# Altium integrated library National Semiconductor Interface.IntLib: 1433 symbols (part 12 of 51)
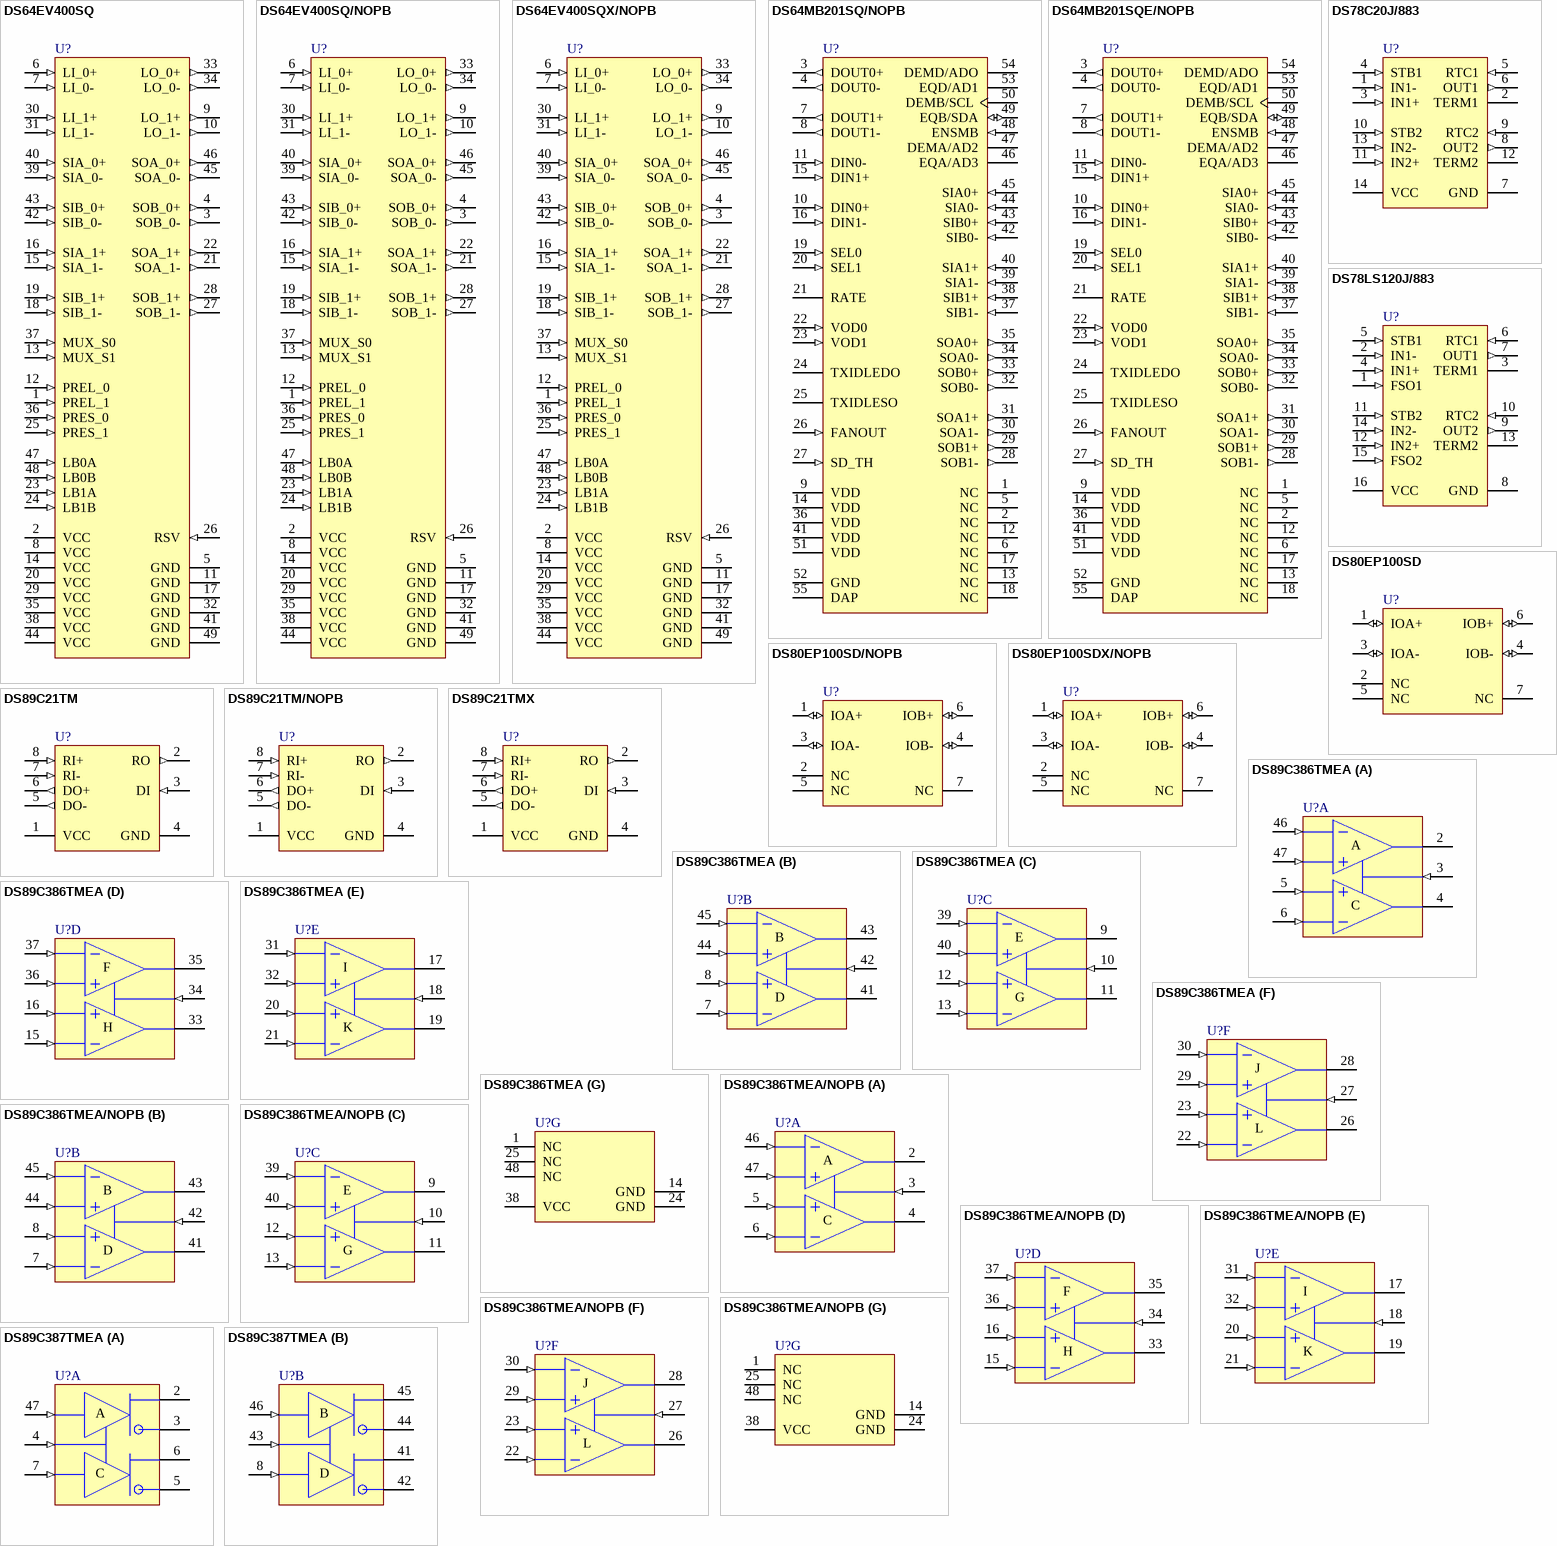
[diagram p135: symbols DS64EV400SQ to DS89C387TMEA]

## DS89C386TMEA/NOPB
designator U?
Twelve Channel CMOS Differential Line Receiver, 48-pin SSOP, Pb-Free; PartNumber: DS89C386TMEA/NOPB; Manufacturer: National Semiconductor; PackageTopMarking: NSUZXYTTE#*DS89C386T*MEA; PowerWise: N; CompType: Interface IC; High-Reliability: Y; DatasheetVersion: Oct-2001; PackageVersion: revF, Sep-2005; PackageReference: MS48A; PackageDescription: SSOP, .295 x .625 x .09in Body, 48 Lead, .025in Pitch; RoHS: Y; PinCount: 48; Code_IPC: SOP635P1035-48; ComponentLink1Description: Manufacturer URL; ComponentLink1URL: http://www.national.com/; ComponentLink2Description: DS89C386 Datasheet; ComponentLink2URL: http://www.national.com/ds/DS/DS89C386.pdf; ComponentLink3Description: DS89C386 Web Page; ComponentLink3URL: http://www.national.com/pf/DS/DS89C386.html; ComponentLink4Description: MS48A Package Page; ComponentLink4URL: http://www.national.com/packaging/folders/ms48a.html
footprint MS48A_N (SOP, 48-Leads, Body 15.9x7.5mm, Pitch 0.635mm, IPC Medium Density)
footprint MS48A_L (SOP, 48-Leads, Body 15.9x7.5mm, Pitch 0.635mm, IPC High Density)
footprint MS48A_M (SOP, 48-Leads, Body 15.9x7.5mm, Pitch 0.635mm, IPC Low Density)
part A pins: 2 RO (hiz), 3 EN (in), 4 RO (hiz), 5 RI+ (in), 6 RI- (in), 46 RI- (in), 47 RI+ (in)
part B pins: 7 RI- (in), 8 RI+ (in), 41 RO (hiz), 42 EN (in), 43 RO (hiz), 44 RI+ (in), 45 RI- (in)
part C pins: 9 RO (hiz), 10 EN (in), 11 RO (hiz), 12 RI+ (in), 13 RI- (in), 39 RI- (in), 40 RI+ (in)
part D pins: 15 RI- (in), 16 RI+ (in), 33 RO (hiz), 34 EN (in), 35 RO (hiz), 36 RI+ (in), 37 RI- (in)
part E pins: 17 RO (hiz), 18 EN (in), 19 RO (hiz), 20 RI+ (in), 21 RI- (in), 31 RI- (in), 32 RI+ (in)
part F pins: 22 RI- (in), 23 RI+ (in), 26 RO (hiz), 27 EN (in), 28 RO (hiz), 29 RI+ (in), 30 RI- (in)
part G pins: 1 NC, 14 GND (power), 24 GND (power), 25 NC, 38 VCC (power), 48 NC
part A text: A; C
part B text: B; D
part C text: E; G
part D text: F; H
part E text: I; K
part F text: J; L

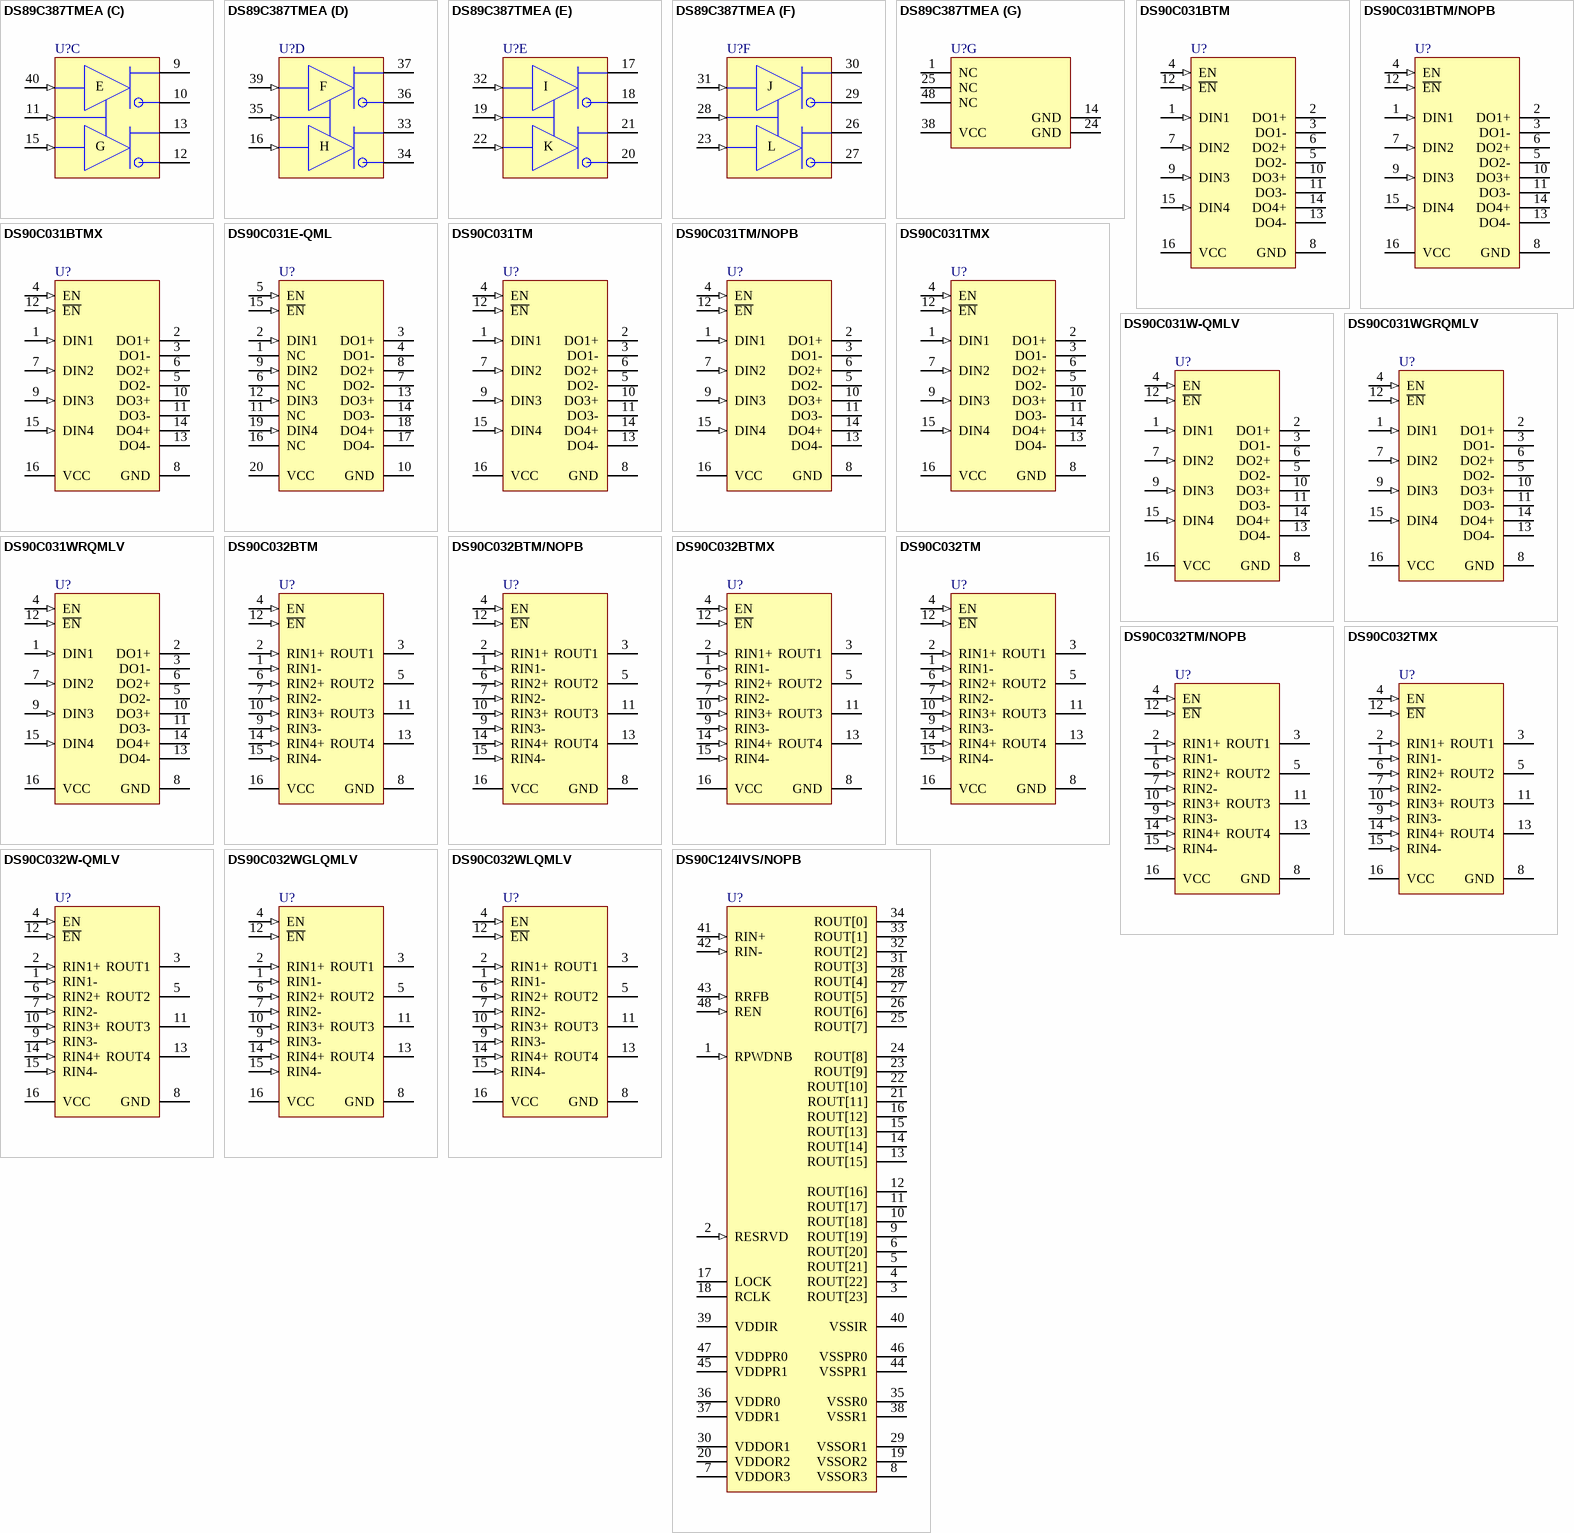
[diagram p29: symbols DS89C387TMEA to DS90C124IVS/NOPB]

## DS89C387TMEA
designator U?
Twelve Channel CMOS Differential Line Driver, 48-pin SSOP; PartNumber: DS89C387TMEA; Manufacturer: National Semiconductor; PackageTopMarking: NSUZXYTTE#*DS89C387T*MEA; PowerWise: N; CompType: Interface IC; High-Reliability: Y; DatasheetVersion: Dec-2006; PackageVersion: revF, Sep-2005; PackageReference: MS48A; PackageDescription: SSOP, .295 x .625 x .09in Body, 48 Lead, .025in Pitch; RoHS: N; PinCount: 48; Code_IPC: SOP635P1035-48; ComponentLink1Description: Manufacturer URL; ComponentLink1URL: http://www.national.com/; ComponentLink2Description: DS89C387 Datasheet; ComponentLink2URL: http://www.national.com/ds/DS/DS89C387.pdf; ComponentLink3Description: DS89C387 Web Page; ComponentLink3URL: http://www.national.com/pf/DS/DS89C387.html; ComponentLink4Description: MS48A Package Page; ComponentLink4URL: http://www.national.com/packaging/folders/ms48a.html
footprint MS48A_N (SOP, 48-Leads, Body 15.9x7.5mm, Pitch 0.635mm, IPC Medium Density)
footprint MS48A_L (SOP, 48-Leads, Body 15.9x7.5mm, Pitch 0.635mm, IPC High Density)
footprint MS48A_M (SOP, 48-Leads, Body 15.9x7.5mm, Pitch 0.635mm, IPC Low Density)
part A pins: 2 DO (hiz), 3 ~{DO} (hiz), 4 EN (in), 5 ~{DO} (hiz), 6 DO (hiz), 7 DI (in), 47 DI (in)
part B pins: 8 DI (in), 41 DO (hiz), 42 ~{DO} (hiz), 43 EN (in), 44 ~{DO} (hiz), 45 DO (hiz), 46 DI (in)
part C pins: 9 DO (hiz), 10 ~{DO} (hiz), 11 EN (in), 12 ~{DO} (hiz), 13 DO (hiz), 15 DI (in), 40 DI (in)
part D pins: 16 DI (in), 33 DO (hiz), 34 ~{DO} (hiz), 35 EN (in), 36 ~{DO} (hiz), 37 DO (hiz), 39 DI (in)
part E pins: 17 DO (hiz), 18 ~{DO} (hiz), 19 EN (in), 20 ~{DO} (hiz), 21 DO (hiz), 22 DI (in), 32 DI (in)
part F pins: 23 DI (in), 26 DO (hiz), 27 ~{DO} (hiz), 28 EN (in), 29 ~{DO} (hiz), 30 DO (hiz), 31 DI (in)
part G pins: 1 NC, 14 GND (power), 24 GND (power), 25 NC, 38 VCC (power), 48 NC
part A text: A; C
part B text: B; D
part C text: E; G
part D text: F; H
part E text: I; K
part F text: J; L

## DS90C031BTM
designator U?
LVDS Quad CMOS Differential Line Driver, 16-pin Narrow SOIC; PartNumber: DS90C031BTM; Manufacturer: National Semiconductor; PackageTopMarking: NSUZXYTTE#*DS90C031BTM; PowerWise: N; CompType: Interface IC; High-Reliability: Y; DatasheetVersion: Oct-2001; PackageVersion: revJ, Aug-1995; PackageReference: M16A; PackageDescription: Molded Package, SO, .150in Wide, 16 Lead; RoHS: N; PinCount: 16; Code_JEDEC: MS-012-AC; Code_IPC: SOIC127P600-16; ComponentLink1Description: Manufacturer URL; ComponentLink1URL: http://www.national.com/; ComponentLink2Description: DS90C031B Datasheet; ComponentLink2URL: http://www.national.com/ds/DS/DS90C031B.pdf; ComponentLink3Description: DS90C031B Web Page; ComponentLink3URL: http://www.national.com/pf/DS/DS90C031B.html; ComponentLink4Description: M16A Package Page; ComponentLink4URL: http://www.national.com/packaging/folders/m16a.html
footprint M16A_N (SOIC, 16-Leads, Body 9.9x3.9mm, Pitch 1.27mm, IPC Medium Density)
footprint M16A_L (SOIC, 16-Leads, Body 9.9x3.9mm, Pitch 1.27mm, IPC High Density)
footprint M16A_M (SOIC, 16-Leads, Body 9.9x3.9mm, Pitch 1.27mm, IPC Low Density)
pins: 1 DIN1 (in), 2 DO1+ (hiz), 3 DO1- (hiz), 4 EN (in), 5 DO2- (hiz), 6 DO2+ (hiz), 7 DIN2 (in), 8 GND (power), 9 DIN3 (in), 10 DO3+ (hiz), 11 DO3- (hiz), 12 ~{EN} (in), 13 DO4- (hiz), 14 DO4+ (hiz), 15 DIN4 (in), 16 VCC (power)

## DS90C031BTM/NOPB
designator U?
LVDS Quad CMOS Differential Line Driver, 16-pin Narrow SOIC, Pb-Free; PartNumber: DS90C031BTM/NOPB; Manufacturer: National Semiconductor; PackageTopMarking: NSUZXYTTE#*DS90C031BTM; PowerWise: N; CompType: Interface IC; High-Reliability: Y; DatasheetVersion: Oct-2001; PackageVersion: revJ, Aug-1995; PackageReference: M16A; PackageDescription: Molded Package, SO, .150in Wide, 16 Lead; RoHS: Y; PinCount: 16; Code_JEDEC: MS-012-AC; Code_IPC: SOIC127P600-16; ComponentLink1Description: Manufacturer URL; ComponentLink1URL: http://www.national.com/; ComponentLink2Description: DS90C031B Datasheet; ComponentLink2URL: http://www.national.com/ds/DS/DS90C031B.pdf; ComponentLink3Description: DS90C031B Web Page; ComponentLink3URL: http://www.national.com/pf/DS/DS90C031B.html; ComponentLink4Description: M16A Package Page; ComponentLink4URL: http://www.national.com/packaging/folders/m16a.html
footprint M16A_N (SOIC, 16-Leads, Body 9.9x3.9mm, Pitch 1.27mm, IPC Medium Density)
footprint M16A_L (SOIC, 16-Leads, Body 9.9x3.9mm, Pitch 1.27mm, IPC High Density)
footprint M16A_M (SOIC, 16-Leads, Body 9.9x3.9mm, Pitch 1.27mm, IPC Low Density)
pins: 1 DIN1 (in), 2 DO1+ (hiz), 3 DO1- (hiz), 4 EN (in), 5 DO2- (hiz), 6 DO2+ (hiz), 7 DIN2 (in), 8 GND (power), 9 DIN3 (in), 10 DO3+ (hiz), 11 DO3- (hiz), 12 ~{EN} (in), 13 DO4- (hiz), 14 DO4+ (hiz), 15 DIN4 (in), 16 VCC (power)

## DS90C031BTMX
designator U?
LVDS Quad CMOS Differential Line Driver, 16-pin Narrow SOIC; PartNumber: DS90C031BTMX; Manufacturer: National Semiconductor; PackageTopMarking: NSUZXYTTE#*DS90C031BTM; PowerWise: N; CompType: Interface IC; High-Reliability: Y; DatasheetVersion: Oct-2001; PackageVersion: revJ, Aug-1995; PackageReference: M16A; PackageDescription: Molded Package, SO, .150in Wide, 16 Lead; RoHS: N; PinCount: 16; Code_JEDEC: MS-012-AC; Code_IPC: SOIC127P600-16; ComponentLink1Description: Manufacturer URL; ComponentLink1URL: http://www.national.com/; ComponentLink2Description: DS90C031B Datasheet; ComponentLink2URL: http://www.national.com/ds/DS/DS90C031B.pdf; ComponentLink3Description: DS90C031B Web Page; ComponentLink3URL: http://www.national.com/pf/DS/DS90C031B.html; ComponentLink4Description: M16A Package Page; ComponentLink4URL: http://www.national.com/packaging/folders/m16a.html
footprint M16A_N (SOIC, 16-Leads, Body 9.9x3.9mm, Pitch 1.27mm, IPC Medium Density)
footprint M16A_L (SOIC, 16-Leads, Body 9.9x3.9mm, Pitch 1.27mm, IPC High Density)
footprint M16A_M (SOIC, 16-Leads, Body 9.9x3.9mm, Pitch 1.27mm, IPC Low Density)
pins: 1 DIN1 (in), 2 DO1+ (hiz), 3 DO1- (hiz), 4 EN (in), 5 DO2- (hiz), 6 DO2+ (hiz), 7 DIN2 (in), 8 GND (power), 9 DIN3 (in), 10 DO3+ (hiz), 11 DO3- (hiz), 12 ~{EN} (in), 13 DO4- (hiz), 14 DO4+ (hiz), 15 DIN4 (in), 16 VCC (power)

## DS90C031E-QML
designator U?
LVDS Quad CMOS Differential Line Driver, 20-pin LCC; PartNumber: DS90C031E-QML; Manufacturer: National Semiconductor; PackageTopMarking: NSZSSXXYYA*5962-95833*01Q2A*DS90C031E*-QML Q; PowerWise: N; CompType: Interface IC; High-Reliability: Y; DatasheetVersion: Jun-1998; PackageVersion: revF, May-2004; PackageReference: E20A; PackageDescription: Leadless Chip Carrier, Type C, 20 Terminal; RoHS: N; PinCount: 20; Code_JEDEC: MS-004-CB; ComponentLink1Description: Manufacturer URL; ComponentLink1URL: http://www.national.com/; ComponentLink2Description: DS90C031 Datasheet; ComponentLink2URL: http://www.national.com/ds/DS/DS90C031QML.pdf; ComponentLink3Description: DS90C031 Web Page; ComponentLink3URL: http://www.national.com/pf/DS/DS90C031.html; ComponentLink4Description: E20A Package Page; ComponentLink4URL: http://www.national.com/packaging/folders/e20a.html
footprint E20A_N (Leadless Chip Carrier, 20-Leads, Body 8.9x8.9mm, Pitch 1.27mm, IPC Medium Density)
footprint E20A_L (Leadless Chip Carrier, 20-Leads, Body 8.9x8.9mm, Pitch 1.27mm, IPC High Density)
footprint E20A_M (Leadless Chip Carrier, 20-Leads, Body 8.9x8.9mm, Pitch 1.27mm, IPC Low Density)
pins: 1 NC, 2 DIN1 (in), 3 DO1+ (hiz), 4 DO1- (hiz), 5 EN (in), 6 NC, 7 DO2- (hiz), 8 DO2+ (hiz), 9 DIN2 (in), 10 GND (power), 11 NC, 12 DIN3 (in), 13 DO3+ (hiz), 14 DO3- (hiz), 15 ~{EN} (in), 16 NC, 17 DO4- (hiz), 18 DO4+ (hiz), 19 DIN4 (in), 20 VCC (power)

## DS90C031TM
designator U?
LVDS Quad CMOS Differential Line Driver, 16-pin Narrow SOIC; PartNumber: DS90C031TM; Manufacturer: National Semiconductor; PackageTopMarking: NSUZXYTTE#*DS90C031TM; PowerWise: N; CompType: Interface IC; High-Reliability: Y; DatasheetVersion: Jun-1998; PackageVersion: revJ, Aug-1995; PackageReference: M16A; PackageDescription: Molded Package, SO, .150in Wide, 16 Lead; RoHS: N; PinCount: 16; Code_JEDEC: MS-012-AC; Code_IPC: SOIC127P600-16; ComponentLink1Description: Manufacturer URL; ComponentLink1URL: http://www.national.com/; ComponentLink2Description: DS90C031 Datasheet; ComponentLink2URL: http://www.national.com/ds/DS/DS90C031.pdf; ComponentLink3Description: DS90C031 Web Page; ComponentLink3URL: http://www.national.com/pf/DS/DS90C031.html; ComponentLink4Description: M16A Package Page; ComponentLink4URL: http://www.national.com/packaging/folders/m16a.html
footprint M16A_N (SOIC, 16-Leads, Body 9.9x3.9mm, Pitch 1.27mm, IPC Medium Density)
footprint M16A_L (SOIC, 16-Leads, Body 9.9x3.9mm, Pitch 1.27mm, IPC High Density)
footprint M16A_M (SOIC, 16-Leads, Body 9.9x3.9mm, Pitch 1.27mm, IPC Low Density)
pins: 1 DIN1 (in), 2 DO1+ (hiz), 3 DO1- (hiz), 4 EN (in), 5 DO2- (hiz), 6 DO2+ (hiz), 7 DIN2 (in), 8 GND (power), 9 DIN3 (in), 10 DO3+ (hiz), 11 DO3- (hiz), 12 ~{EN} (in), 13 DO4- (hiz), 14 DO4+ (hiz), 15 DIN4 (in), 16 VCC (power)

## DS90C031TM/NOPB
designator U?
LVDS Quad CMOS Differential Line Driver, 16-pin Narrow SOIC, Pb-Free; PartNumber: DS90C031TM/NOPB; Manufacturer: National Semiconductor; PackageTopMarking: NSUZXYTTE#*DS90C031TM; PowerWise: N; CompType: Interface IC; High-Reliability: Y; DatasheetVersion: Jun-1998; PackageVersion: revJ, Aug-1995; PackageReference: M16A; PackageDescription: Molded Package, SO, .150in Wide, 16 Lead; RoHS: Y; PinCount: 16; Code_JEDEC: MS-012-AC; Code_IPC: SOIC127P600-16; ComponentLink1Description: Manufacturer URL; ComponentLink1URL: http://www.national.com/; ComponentLink2Description: DS90C031 Datasheet; ComponentLink2URL: http://www.national.com/ds/DS/DS90C031.pdf; ComponentLink3Description: DS90C031 Web Page; ComponentLink3URL: http://www.national.com/pf/DS/DS90C031.html; ComponentLink4Description: M16A Package Page; ComponentLink4URL: http://www.national.com/packaging/folders/m16a.html
footprint M16A_N (SOIC, 16-Leads, Body 9.9x3.9mm, Pitch 1.27mm, IPC Medium Density)
footprint M16A_L (SOIC, 16-Leads, Body 9.9x3.9mm, Pitch 1.27mm, IPC High Density)
footprint M16A_M (SOIC, 16-Leads, Body 9.9x3.9mm, Pitch 1.27mm, IPC Low Density)
pins: 1 DIN1 (in), 2 DO1+ (hiz), 3 DO1- (hiz), 4 EN (in), 5 DO2- (hiz), 6 DO2+ (hiz), 7 DIN2 (in), 8 GND (power), 9 DIN3 (in), 10 DO3+ (hiz), 11 DO3- (hiz), 12 ~{EN} (in), 13 DO4- (hiz), 14 DO4+ (hiz), 15 DIN4 (in), 16 VCC (power)

## DS90C031TMX
designator U?
LVDS Quad CMOS Differential Line Driver, 16-pin Narrow SOIC; PartNumber: DS90C031TMX; Manufacturer: National Semiconductor; PackageTopMarking: NSUZXYTTE#*DS90C031TM; PowerWise: N; CompType: Interface IC; High-Reliability: Y; DatasheetVersion: Jun-1998; PackageVersion: revJ, Aug-1995; PackageReference: M16A; PackageDescription: Molded Package, SO, .150in Wide, 16 Lead; RoHS: N; PinCount: 16; Code_JEDEC: MS-012-AC; Code_IPC: SOIC127P600-16; ComponentLink1Description: Manufacturer URL; ComponentLink1URL: http://www.national.com/; ComponentLink2Description: DS90C031 Datasheet; ComponentLink2URL: http://www.national.com/ds/DS/DS90C031.pdf; ComponentLink3Description: DS90C031 Web Page; ComponentLink3URL: http://www.national.com/pf/DS/DS90C031.html; ComponentLink4Description: M16A Package Page; ComponentLink4URL: http://www.national.com/packaging/folders/m16a.html
footprint M16A_N (SOIC, 16-Leads, Body 9.9x3.9mm, Pitch 1.27mm, IPC Medium Density)
footprint M16A_L (SOIC, 16-Leads, Body 9.9x3.9mm, Pitch 1.27mm, IPC High Density)
footprint M16A_M (SOIC, 16-Leads, Body 9.9x3.9mm, Pitch 1.27mm, IPC Low Density)
pins: 1 DIN1 (in), 2 DO1+ (hiz), 3 DO1- (hiz), 4 EN (in), 5 DO2- (hiz), 6 DO2+ (hiz), 7 DIN2 (in), 8 GND (power), 9 DIN3 (in), 10 DO3+ (hiz), 11 DO3- (hiz), 12 ~{EN} (in), 13 DO4- (hiz), 14 DO4+ (hiz), 15 DIN4 (in), 16 VCC (power)

## DS90C031W-QMLV
designator U?
LVDS Quad CMOS Differential Line Driver, 16-pin CerPACK; PartNumber: DS90C031W-QMLV; Manufacturer: National Semiconductor; PackageTopMarking: NSZSSXXYYA*DS90C031W-*QV Q 5962-*9583301VFA; PowerWise: N; CompType: Interface IC; High-Reliability: Y; DatasheetVersion: Mar-06; PackageVersion: revT, Jul-2005; PackageReference: W16A; PackageDescription: Cerpack, .390 x .250 x .074in Body, 16 Lead, .050in Pitch; RoHS: N; PinCount: 16; Code_JEDEC: MO-092-AC; ComponentLink1Description: Manufacturer URL; ComponentLink1URL: http://www.national.com/; ComponentLink2Description: DS90C031 Datasheet; ComponentLink2URL: http://www.national.com/ds/DS/DS90C031QML.pdf; ComponentLink3Description: DS90C031 Web Page; ComponentLink3URL: http://www.national.com/pf/DS/DS90C031.html; ComponentLink4Description: W16A Package Page; ComponentLink4URL: http://www.national.com/packaging/folders/w16a.html
footprint W16A (DFP; 16 Leads; Body 9.9 x 7.6 mm (LxW max); Pitch 1.27 mm)
pins: 1 DIN1 (in), 2 DO1+ (hiz), 3 DO1- (hiz), 4 EN (in), 5 DO2- (hiz), 6 DO2+ (hiz), 7 DIN2 (in), 8 GND (power), 9 DIN3 (in), 10 DO3+ (hiz), 11 DO3- (hiz), 12 ~{EN} (in), 13 DO4- (hiz), 14 DO4+ (hiz), 15 DIN4 (in), 16 VCC (power)

## DS90C031WGRQMLV
designator U?
LVDS Quad CMOS Differential Line Driver, 16-pin CerPACK; PartNumber: DS90C031WGRQMLV; Manufacturer: National Semiconductor; PackageTopMarking: NSZSSXXYYA*DS90C031WGR*QV Q 5962R*9583301VZA; PowerWise: N; CompType: Interface IC; High-Reliability: Y; DatasheetVersion: Mar-06; PackageVersion: revE, Jul-2007; PackageReference: WG16A; PackageDescription: Cerpack, .390 x .250 x .070in, 16 Lead, .050in Pitch, Gull Wing; RoHS: N; PinCount: 16; ComponentLink1Description: Manufacturer URL; ComponentLink1URL: http://www.national.com/; ComponentLink2Description: DS90C031 Datasheet; ComponentLink2URL: http://www.national.com/ds/DS/DS90C031QML.pdf; ComponentLink3Description: DS90C031 Web Page; ComponentLink3URL: http://www.national.com/pf/DS/DS90C031.html; ComponentLink4Description: WG16A Package Page; ComponentLink4URL: http://www.national.com/packaging/folders/wg16a.html
footprint WG16A_N (CERPACK, 16-Leads, Body 9.9x6.5mm, Pitch 1.27mm, IPC Medium Density)
footprint WG16A_L (CERPACK, 16-Leads, Body 9.9x6.5mm, Pitch 1.27mm, IPC High Density)
footprint WG16A_M (CERPACK, 16-Leads, Body 9.9x6.5mm, Pitch 1.27mm, IPC Low Density)
pins: 1 DIN1 (in), 2 DO1+ (hiz), 3 DO1- (hiz), 4 EN (in), 5 DO2- (hiz), 6 DO2+ (hiz), 7 DIN2 (in), 8 GND (power), 9 DIN3 (in), 10 DO3+ (hiz), 11 DO3- (hiz), 12 ~{EN} (in), 13 DO4- (hiz), 14 DO4+ (hiz), 15 DIN4 (in), 16 VCC (power)

## DS90C031WRQMLV
designator U?
LVDS Quad CMOS Differential Line Driver, 16-pin CerPACK; PartNumber: DS90C031WRQMLV; Manufacturer: National Semiconductor; PackageTopMarking: NSZSSXXYYA*DS90C031WR*QV Q 5962R*9583301VFA; PowerWise: N; CompType: Interface IC; High-Reliability: Y; DatasheetVersion: Mar-06; PackageVersion: revT, Jul-2005; PackageReference: W16A; PackageDescription: Cerpack, .390 x .250 x .074in Body, 16 Lead, .050in Pitch; RoHS: N; PinCount: 16; Code_JEDEC: MO-092-AC; ComponentLink1Description: Manufacturer URL; ComponentLink1URL: http://www.national.com/; ComponentLink2Description: DS90C031 Datasheet; ComponentLink2URL: http://www.national.com/ds/DS/DS90C031QML.pdf; ComponentLink3Description: DS90C031 Web Page; ComponentLink3URL: http://www.national.com/pf/DS/DS90C031.html; ComponentLink4Description: W16A Package Page; ComponentLink4URL: http://www.national.com/packaging/folders/w16a.html
footprint W16A (DFP; 16 Leads; Body 9.9 x 7.6 mm (LxW max); Pitch 1.27 mm)
pins: 1 DIN1 (in), 2 DO1+ (hiz), 3 DO1- (hiz), 4 EN (in), 5 DO2- (hiz), 6 DO2+ (hiz), 7 DIN2 (in), 8 GND (power), 9 DIN3 (in), 10 DO3+ (hiz), 11 DO3- (hiz), 12 ~{EN} (in), 13 DO4- (hiz), 14 DO4+ (hiz), 15 DIN4 (in), 16 VCC (power)

## DS90C032BTM
designator U?
LVDS Quad CMOS Differential Line Receiver, 16-pin Narrow SOIC; PartNumber: DS90C032BTM; Manufacturer: National Semiconductor; PackageTopMarking: NSUZXYTTE#*DS90C032BTM; PowerWise: N; CompType: Interface IC; High-Reliability: Y; DatasheetVersion: Sep-2003; PackageVersion: revJ, Aug-1995; PackageReference: M16A; PackageDescription: Molded Package, SO, .150in Wide, 16 Lead; RoHS: N; PinCount: 16; Code_JEDEC: MS-012-AC; Code_IPC: SOIC127P600-16; ComponentLink1Description: Manufacturer URL; ComponentLink1URL: http://www.national.com/; ComponentLink2Description: DS90C032B Datasheet; ComponentLink2URL: http://www.national.com/ds/DS/DS90C032B.pdf; ComponentLink3Description: DS90C032B Web Page; ComponentLink3URL: http://www.national.com/pf/DS/DS90C032B.html; ComponentLink4Description: M16A Package Page; ComponentLink4URL: http://www.national.com/packaging/folders/m16a.html
footprint M16A_N (SOIC, 16-Leads, Body 9.9x3.9mm, Pitch 1.27mm, IPC Medium Density)
footprint M16A_L (SOIC, 16-Leads, Body 9.9x3.9mm, Pitch 1.27mm, IPC High Density)
footprint M16A_M (SOIC, 16-Leads, Body 9.9x3.9mm, Pitch 1.27mm, IPC Low Density)
pins: 1 RIN1- (in), 2 RIN1+ (in), 3 ROUT1 (hiz), 4 EN (in), 5 ROUT2 (hiz), 6 RIN2+ (in), 7 RIN2- (in), 8 GND (power), 9 RIN3- (in), 10 RIN3+ (in), 11 ROUT3 (hiz), 12 ~{EN} (in), 13 ROUT4 (hiz), 14 RIN4+ (in), 15 RIN4- (in), 16 VCC (power)

## DS90C032BTM/NOPB
designator U?
LVDS Quad CMOS Differential Line Receiver, 16-pin Narrow SOIC, Pb-Free; PartNumber: DS90C032BTM/NOPB; Manufacturer: National Semiconductor; PackageTopMarking: NSUZXYTTE#*DS90C032BTM; PowerWise: N; CompType: Interface IC; High-Reliability: Y; DatasheetVersion: Sep-2003; PackageVersion: revJ, Aug-1995; PackageReference: M16A; PackageDescription: Molded Package, SO, .150in Wide, 16 Lead; RoHS: Y; PinCount: 16; Code_JEDEC: MS-012-AC; Code_IPC: SOIC127P600-16; ComponentLink1Description: Manufacturer URL; ComponentLink1URL: http://www.national.com/; ComponentLink2Description: DS90C032B Datasheet; ComponentLink2URL: http://www.national.com/ds/DS/DS90C032B.pdf; ComponentLink3Description: DS90C032B Web Page; ComponentLink3URL: http://www.national.com/pf/DS/DS90C032B.html; ComponentLink4Description: M16A Package Page; ComponentLink4URL: http://www.national.com/packaging/folders/m16a.html
footprint M16A_N (SOIC, 16-Leads, Body 9.9x3.9mm, Pitch 1.27mm, IPC Medium Density)
footprint M16A_L (SOIC, 16-Leads, Body 9.9x3.9mm, Pitch 1.27mm, IPC High Density)
footprint M16A_M (SOIC, 16-Leads, Body 9.9x3.9mm, Pitch 1.27mm, IPC Low Density)
pins: 1 RIN1- (in), 2 RIN1+ (in), 3 ROUT1 (hiz), 4 EN (in), 5 ROUT2 (hiz), 6 RIN2+ (in), 7 RIN2- (in), 8 GND (power), 9 RIN3- (in), 10 RIN3+ (in), 11 ROUT3 (hiz), 12 ~{EN} (in), 13 ROUT4 (hiz), 14 RIN4+ (in), 15 RIN4- (in), 16 VCC (power)

## DS90C032BTMX
designator U?
LVDS Quad CMOS Differential Line Receiver, 16-pin Narrow SOIC; PartNumber: DS90C032BTMX; Manufacturer: National Semiconductor; PackageTopMarking: NSUZXYTTE#*DS90C032BTM; PowerWise: N; CompType: Interface IC; High-Reliability: Y; DatasheetVersion: Sep-2003; PackageVersion: revJ, Aug-1995; PackageReference: M16A; PackageDescription: Molded Package, SO, .150in Wide, 16 Lead; RoHS: N; PinCount: 16; Code_JEDEC: MS-012-AC; Code_IPC: SOIC127P600-16; ComponentLink1Description: Manufacturer URL; ComponentLink1URL: http://www.national.com/; ComponentLink2Description: DS90C032B Datasheet; ComponentLink2URL: http://www.national.com/ds/DS/DS90C032B.pdf; ComponentLink3Description: DS90C032B Web Page; ComponentLink3URL: http://www.national.com/pf/DS/DS90C032B.html; ComponentLink4Description: M16A Package Page; ComponentLink4URL: http://www.national.com/packaging/folders/m16a.html
footprint M16A_N (SOIC, 16-Leads, Body 9.9x3.9mm, Pitch 1.27mm, IPC Medium Density)
footprint M16A_L (SOIC, 16-Leads, Body 9.9x3.9mm, Pitch 1.27mm, IPC High Density)
footprint M16A_M (SOIC, 16-Leads, Body 9.9x3.9mm, Pitch 1.27mm, IPC Low Density)
pins: 1 RIN1- (in), 2 RIN1+ (in), 3 ROUT1 (hiz), 4 EN (in), 5 ROUT2 (hiz), 6 RIN2+ (in), 7 RIN2- (in), 8 GND (power), 9 RIN3- (in), 10 RIN3+ (in), 11 ROUT3 (hiz), 12 ~{EN} (in), 13 ROUT4 (hiz), 14 RIN4+ (in), 15 RIN4- (in), 16 VCC (power)

## DS90C032TM
designator U?
LVDS Quad CMOS Differential Line Receiver, 16-pin Narrow SOIC; PartNumber: DS90C032TM; Manufacturer: National Semiconductor; PackageTopMarking: NSUZXYTTE#*DS90C032TM; PowerWise: N; CompType: Interface IC; High-Reliability: Y; DatasheetVersion: May-2007; PackageVersion: revJ, Aug-1995; PackageReference: M16A; PackageDescription: Molded Package, SO, .150in Wide, 16 Lead; RoHS: N; PinCount: 16; Code_JEDEC: MS-012-AC; Code_IPC: SOIC127P600-16; ComponentLink1Description: Manufacturer URL; ComponentLink1URL: http://www.national.com/; ComponentLink2Description: DS90C032 Datasheet; ComponentLink2URL: http://www.national.com/ds/DS/DS90C032.pdf; ComponentLink3Description: DS90C032 Web Page; ComponentLink3URL: http://www.national.com/pf/DS/DS90C032.html; ComponentLink4Description: M16A Package Page; ComponentLink4URL: http://www.national.com/packaging/folders/m16a.html
footprint M16A_N (SOIC, 16-Leads, Body 9.9x3.9mm, Pitch 1.27mm, IPC Medium Density)
footprint M16A_L (SOIC, 16-Leads, Body 9.9x3.9mm, Pitch 1.27mm, IPC High Density)
footprint M16A_M (SOIC, 16-Leads, Body 9.9x3.9mm, Pitch 1.27mm, IPC Low Density)
pins: 1 RIN1- (in), 2 RIN1+ (in), 3 ROUT1 (hiz), 4 EN (in), 5 ROUT2 (hiz), 6 RIN2+ (in), 7 RIN2- (in), 8 GND (power), 9 RIN3- (in), 10 RIN3+ (in), 11 ROUT3 (hiz), 12 ~{EN} (in), 13 ROUT4 (hiz), 14 RIN4+ (in), 15 RIN4- (in), 16 VCC (power)

## DS90C032TM/NOPB
designator U?
LVDS Quad CMOS Differential Line Receiver, 16-pin Narrow SOIC, Pb-Free; PartNumber: DS90C032TM/NOPB; Manufacturer: National Semiconductor; PackageTopMarking: NSUZXYTTE#*DS90C032TM; PowerWise: N; CompType: Interface IC; High-Reliability: Y; DatasheetVersion: May-2007; PackageVersion: revJ, Aug-1995; PackageReference: M16A; PackageDescription: Molded Package, SO, .150in Wide, 16 Lead; RoHS: Y; PinCount: 16; Code_JEDEC: MS-012-AC; Code_IPC: SOIC127P600-16; ComponentLink1Description: Manufacturer URL; ComponentLink1URL: http://www.national.com/; ComponentLink2Description: DS90C032 Datasheet; ComponentLink2URL: http://www.national.com/ds/DS/DS90C032.pdf; ComponentLink3Description: DS90C032 Web Page; ComponentLink3URL: http://www.national.com/pf/DS/DS90C032.html; ComponentLink4Description: M16A Package Page; ComponentLink4URL: http://www.national.com/packaging/folders/m16a.html
footprint M16A_N (SOIC, 16-Leads, Body 9.9x3.9mm, Pitch 1.27mm, IPC Medium Density)
footprint M16A_L (SOIC, 16-Leads, Body 9.9x3.9mm, Pitch 1.27mm, IPC High Density)
footprint M16A_M (SOIC, 16-Leads, Body 9.9x3.9mm, Pitch 1.27mm, IPC Low Density)
pins: 1 RIN1- (in), 2 RIN1+ (in), 3 ROUT1 (hiz), 4 EN (in), 5 ROUT2 (hiz), 6 RIN2+ (in), 7 RIN2- (in), 8 GND (power), 9 RIN3- (in), 10 RIN3+ (in), 11 ROUT3 (hiz), 12 ~{EN} (in), 13 ROUT4 (hiz), 14 RIN4+ (in), 15 RIN4- (in), 16 VCC (power)

## DS90C032TMX
designator U?
LVDS Quad CMOS Differential Line Receiver, 16-pin Narrow SOIC; PartNumber: DS90C032TMX; Manufacturer: National Semiconductor; PackageTopMarking: NSUZXYTTE#*DS90C032TM; PowerWise: N; CompType: Interface IC; High-Reliability: Y; DatasheetVersion: May-2007; PackageVersion: revJ, Aug-1995; PackageReference: M16A; PackageDescription: Molded Package, SO, .150in Wide, 16 Lead; RoHS: N; PinCount: 16; Code_JEDEC: MS-012-AC; Code_IPC: SOIC127P600-16; ComponentLink1Description: Manufacturer URL; ComponentLink1URL: http://www.national.com/; ComponentLink2Description: DS90C032 Datasheet; ComponentLink2URL: http://www.national.com/ds/DS/DS90C032.pdf; ComponentLink3Description: DS90C032 Web Page; ComponentLink3URL: http://www.national.com/pf/DS/DS90C032.html; ComponentLink4Description: M16A Package Page; ComponentLink4URL: http://www.national.com/packaging/folders/m16a.html
footprint M16A_N (SOIC, 16-Leads, Body 9.9x3.9mm, Pitch 1.27mm, IPC Medium Density)
footprint M16A_L (SOIC, 16-Leads, Body 9.9x3.9mm, Pitch 1.27mm, IPC High Density)
footprint M16A_M (SOIC, 16-Leads, Body 9.9x3.9mm, Pitch 1.27mm, IPC Low Density)
pins: 1 RIN1- (in), 2 RIN1+ (in), 3 ROUT1 (hiz), 4 EN (in), 5 ROUT2 (hiz), 6 RIN2+ (in), 7 RIN2- (in), 8 GND (power), 9 RIN3- (in), 10 RIN3+ (in), 11 ROUT3 (hiz), 12 ~{EN} (in), 13 ROUT4 (hiz), 14 RIN4+ (in), 15 RIN4- (in), 16 VCC (power)

## DS90C032W-QMLV
designator U?
LVDS Quad CMOS Differential Line Receiver, 16-pin CerPACK; PartNumber: DS90C032W-QMLV; Manufacturer: National Semiconductor; PackageTopMarking: NSZSSXXYYA*DS90C032W-*QV Q 5962-*9583401VFA; PowerWise: N; CompType: Interface IC; High-Reliability: Y; DatasheetVersion: May-2007; PackageVersion: revT, Jul-2005; PackageReference: W16A; PackageDescription: Cerpack, .390 x .250 x .074in Body, 16 Lead, .050in Pitch; RoHS: N; PinCount: 16; Code_JEDEC: MO-092-AC; ComponentLink1Description: Manufacturer URL; ComponentLink1URL: http://www.national.com/; ComponentLink2Description: DS90C032 Datasheet; ComponentLink2URL: http://www.national.com/ds/DS/DS90C032QML.pdf; ComponentLink3Description: DS90C032 Web Page; ComponentLink3URL: http://www.national.com/pf/DS/DS90C032.html; ComponentLink4Description: W16A Package Page; ComponentLink4URL: http://www.national.com/packaging/folders/w16a.html
footprint W16A (DFP; 16 Leads; Body 9.9 x 7.6 mm (LxW max); Pitch 1.27 mm)
pins: 1 RIN1- (in), 2 RIN1+ (in), 3 ROUT1 (hiz), 4 EN (in), 5 ROUT2 (hiz), 6 RIN2+ (in), 7 RIN2- (in), 8 GND (power), 9 RIN3- (in), 10 RIN3+ (in), 11 ROUT3 (hiz), 12 ~{EN} (in), 13 ROUT4 (hiz), 14 RIN4+ (in), 15 RIN4- (in), 16 VCC (power)

## DS90C032WGLQMLV
designator U?
LVDS Quad CMOS Differential Line Receiver, 16-pin CerPACK; PartNumber: DS90C032WGLQMLV; Manufacturer: National Semiconductor; PackageTopMarking: NSZSSXXYYA*DS90C032WGL*QV Q 5962L*9583401VZA; PowerWise: N; CompType: Interface IC; High-Reliability: Y; DatasheetVersion: May-2007; PackageVersion: revE, Jul-2007; PackageReference: WG16A; PackageDescription: Cerpack, .390 x .250 x .070in, 16 Lead, .050in Pitch, Gull Wing; RoHS: N; PinCount: 16; ComponentLink1Description: Manufacturer URL; ComponentLink1URL: http://www.national.com/; ComponentLink2Description: DS90C032 Datasheet; ComponentLink2URL: http://www.national.com/ds/DS/DS90C032QML.pdf; ComponentLink3Description: DS90C032 Web Page; ComponentLink3URL: http://www.national.com/pf/DS/DS90C032.html; ComponentLink4Description: WG16A Package Page; ComponentLink4URL: http://www.national.com/packaging/folders/wg16a.html
footprint WG16A_N (CERPACK, 16-Leads, Body 9.9x6.5mm, Pitch 1.27mm, IPC Medium Density)
footprint WG16A_L (CERPACK, 16-Leads, Body 9.9x6.5mm, Pitch 1.27mm, IPC High Density)
footprint WG16A_M (CERPACK, 16-Leads, Body 9.9x6.5mm, Pitch 1.27mm, IPC Low Density)
pins: 1 RIN1- (in), 2 RIN1+ (in), 3 ROUT1 (hiz), 4 EN (in), 5 ROUT2 (hiz), 6 RIN2+ (in), 7 RIN2- (in), 8 GND (power), 9 RIN3- (in), 10 RIN3+ (in), 11 ROUT3 (hiz), 12 ~{EN} (in), 13 ROUT4 (hiz), 14 RIN4+ (in), 15 RIN4- (in), 16 VCC (power)

## DS90C032WLQMLV
designator U?
LVDS Quad CMOS Differential Line Receiver, 16-pin CerPACK; PartNumber: DS90C032WLQMLV; Manufacturer: National Semiconductor; PackageTopMarking: NSZSSXXYYA*DS90C032WL*QV Q 5962L*9583401VFA; PowerWise: N; CompType: Interface IC; High-Reliability: Y; DatasheetVersion: May-2007; PackageVersion: revT, Jul-2005; PackageReference: W16A; PackageDescription: Cerpack, .390 x .250 x .074in Body, 16 Lead, .050in Pitch; RoHS: N; PinCount: 16; Code_JEDEC: MO-092-AC; ComponentLink1Description: Manufacturer URL; ComponentLink1URL: http://www.national.com/; ComponentLink2Description: DS90C032 Datasheet; ComponentLink2URL: http://www.national.com/ds/DS/DS90C032QML.pdf; ComponentLink3Description: DS90C032 Web Page; ComponentLink3URL: http://www.national.com/pf/DS/DS90C032.html; ComponentLink4Description: W16A Package Page; ComponentLink4URL: http://www.national.com/packaging/folders/w16a.html
footprint W16A (DFP; 16 Leads; Body 9.9 x 7.6 mm (LxW max); Pitch 1.27 mm)
pins: 1 RIN1- (in), 2 RIN1+ (in), 3 ROUT1 (hiz), 4 EN (in), 5 ROUT2 (hiz), 6 RIN2+ (in), 7 RIN2- (in), 8 GND (power), 9 RIN3- (in), 10 RIN3+ (in), 11 ROUT3 (hiz), 12 ~{EN} (in), 13 ROUT4 (hiz), 14 RIN4+ (in), 15 RIN4- (in), 16 VCC (power)

## DS90C124IVS/NOPB
designator U?
5-35MHz DC- Balanced 24-Bit FPD-Link II Deserializer, 48 pin TQFP; PartNumber: DS90C124IVS/NOPB; Manufacturer: National Semiconductor; PackageTopMarking: NSUZXYTT*DS90C124*IVS; PowerWise: N; CompType: Interface IC; High-Reliability: Y; DatasheetVersion: Aug-2009; PackageVersion: revA, Apr-2000; PackageReference: VBC48A; PackageDescription: TQFP, Jedec Metric, 7 x 7 x 1mm, 48 Lead, 0.5mm Pitch; RoHS: Y; PinCount: 48; Code_JEDEC: MS-026-ABC; ComponentLink1Description: Manufacturer URL; ComponentLink1URL: http://www.national.com/; ComponentLink2Description: DS90C124 Datasheet; ComponentLink2URL: http://www.national.com/ds/DS/DS90C124.pdf; ComponentLink3Description: DS90C124 Web Page; ComponentLink3URL: http://www.national.com/pf/DS/DS90C124.html; ComponentLink4Description: VBC48A Package Page; ComponentLink4URL: http://www.national.com/packaging/folders/vbc48a.html
footprint VBC48A_N (Thin QFP, 48-Leads, Body 7x7mm, Pitch 0.5mm, IPC Medium Density)
footprint VBC48A_L (Thin QFP, 48-Leads, Body 7x7mm, Pitch 0.5mm, IPC High Density)
footprint VBC48A_M (Thin QFP, 48-Leads, Body 7x7mm, Pitch 0.5mm, IPC Low Density)
pins: 1 RPWDNB (in), 2 RESRVD (in), 3 ROUT[23] (hiz), 4 ROUT[22] (hiz), 5 ROUT[21] (hiz), 6 ROUT[20] (hiz), 7 VDDOR3 (power), 8 VSSOR3 (power), 9 ROUT[19] (hiz), 10 ROUT[18] (hiz), 11 ROUT[17] (hiz), 12 ROUT[16] (hiz), 13 ROUT[15] (hiz), 14 ROUT[14] (hiz), 15 ROUT[13] (hiz), 16 ROUT[12] (hiz), 17 LOCK (hiz), 18 RCLK (hiz), 19 VSSOR2 (power), 20 VDDOR2 (power), 21 ROUT[11] (hiz), 22 ROUT[10] (hiz), 23 ROUT[9] (hiz), 24 ROUT[8] (hiz), 25 ROUT[7] (hiz), 26 ROUT[6] (hiz), 27 ROUT[5] (hiz), 28 ROUT[4] (hiz), 29 VSSOR1 (power), 30 VDDOR1 (power), 31 ROUT[3] (hiz), 32 ROUT[2] (hiz), 33 ROUT[1] (hiz), 34 ROUT[0] (hiz), 35 VSSR0 (power), 36 VDDR0 (power), 37 VDDR1 (power), 38 VSSR1 (power), 39 VDDIR (power), 40 VSSIR (power), 41 RIN+ (in), 42 RIN- (in), 43 RRFB (in), 44 VSSPR1 (power), 45 VDDPR1 (power), 46 VSSPR0 (power), 47 VDDPR0 (power), 48 REN (in)

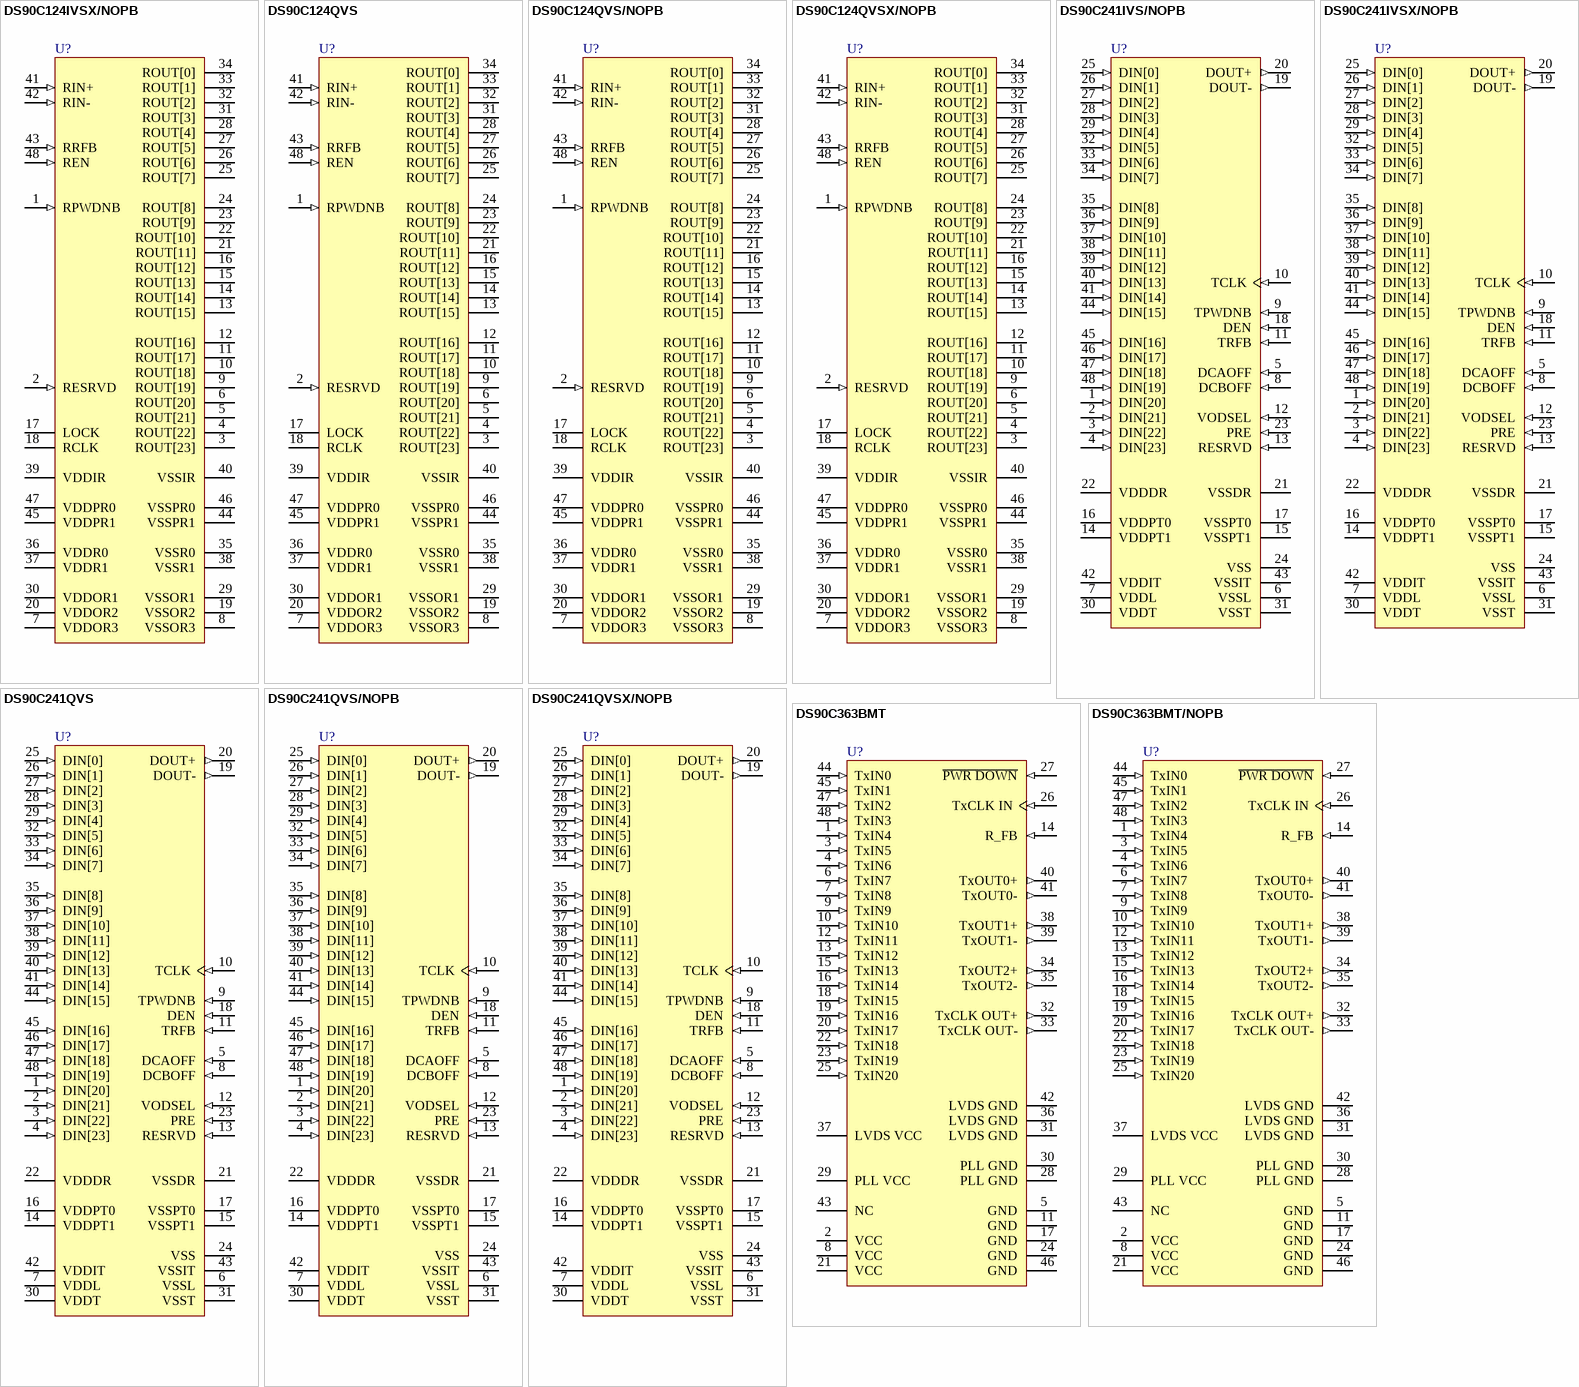
[diagram p30: symbols DS90C124IVSX/NOPB to DS90C363BMT/NOPB]

## DS90C124IVSX/NOPB
designator U?
5-35MHz DC- Balanced 24-Bit FPD-Link II Deserializer, 48 pin TQFP; PartNumber: DS90C124IVSX/NOPB; Manufacturer: National Semiconductor; PackageTopMarking: NSUZXYTT*DS90C124*IVS; PowerWise: N; CompType: Interface IC; High-Reliability: Y; DatasheetVersion: Aug-2009; PackageVersion: revA, Apr-2000; PackageReference: VBC48A; PackageDescription: TQFP, Jedec Metric, 7 x 7 x 1mm, 48 Lead, 0.5mm Pitch; RoHS: Y; PinCount: 48; Code_JEDEC: MS-026-ABC; ComponentLink1Description: Manufacturer URL; ComponentLink1URL: http://www.national.com/; ComponentLink2Description: DS90C124 Datasheet; ComponentLink2URL: http://www.national.com/ds/DS/DS90C124.pdf; ComponentLink3Description: DS90C124 Web Page; ComponentLink3URL: http://www.national.com/pf/DS/DS90C124.html; ComponentLink4Description: VBC48A Package Page; ComponentLink4URL: http://www.national.com/packaging/folders/vbc48a.html
footprint VBC48A_N (Thin QFP, 48-Leads, Body 7x7mm, Pitch 0.5mm, IPC Medium Density)
footprint VBC48A_L (Thin QFP, 48-Leads, Body 7x7mm, Pitch 0.5mm, IPC High Density)
footprint VBC48A_M (Thin QFP, 48-Leads, Body 7x7mm, Pitch 0.5mm, IPC Low Density)
pins: 1 RPWDNB (in), 2 RESRVD (in), 3 ROUT[23] (hiz), 4 ROUT[22] (hiz), 5 ROUT[21] (hiz), 6 ROUT[20] (hiz), 7 VDDOR3 (power), 8 VSSOR3 (power), 9 ROUT[19] (hiz), 10 ROUT[18] (hiz), 11 ROUT[17] (hiz), 12 ROUT[16] (hiz), 13 ROUT[15] (hiz), 14 ROUT[14] (hiz), 15 ROUT[13] (hiz), 16 ROUT[12] (hiz), 17 LOCK (hiz), 18 RCLK (hiz), 19 VSSOR2 (power), 20 VDDOR2 (power), 21 ROUT[11] (hiz), 22 ROUT[10] (hiz), 23 ROUT[9] (hiz), 24 ROUT[8] (hiz), 25 ROUT[7] (hiz), 26 ROUT[6] (hiz), 27 ROUT[5] (hiz), 28 ROUT[4] (hiz), 29 VSSOR1 (power), 30 VDDOR1 (power), 31 ROUT[3] (hiz), 32 ROUT[2] (hiz), 33 ROUT[1] (hiz), 34 ROUT[0] (hiz), 35 VSSR0 (power), 36 VDDR0 (power), 37 VDDR1 (power), 38 VSSR1 (power), 39 VDDIR (power), 40 VSSIR (power), 41 RIN+ (in), 42 RIN- (in), 43 RRFB (in), 44 VSSPR1 (power), 45 VDDPR1 (power), 46 VSSPR0 (power), 47 VDDPR0 (power), 48 REN (in)

## DS90C124QVS
designator U?
5-35MHz DC- Balanced 24-Bit FPD-Link II Deserializer, 48 pin TQFP; PartNumber: DS90C124QVS; Manufacturer: National Semiconductor; PackageTopMarking: NSUZXYTT*DS90C124*QVS; PowerWise: N; CompType: Interface IC; High-Reliability: Y; DatasheetVersion: Aug-2009; PackageVersion: revA, Apr-2000; PackageReference: VBC48A; PackageDescription: TQFP, Jedec Metric, 7 x 7 x 1mm, 48 Lead, 0.5mm Pitch; RoHS: Y; PinCount: 48; Code_JEDEC: MS-026-ABC; ComponentLink1Description: Manufacturer URL; ComponentLink1URL: http://www.national.com/; ComponentLink2Description: DS90C124 Datasheet; ComponentLink2URL: http://www.national.com/ds/DS/DS90C124.pdf; ComponentLink3Description: DS90C124 Web Page; ComponentLink3URL: http://www.national.com/pf/DS/DS90C124.html; ComponentLink4Description: VBC48A Package Page; ComponentLink4URL: http://www.national.com/packaging/folders/vbc48a.html
footprint VBC48A_N (Thin QFP, 48-Leads, Body 7x7mm, Pitch 0.5mm, IPC Medium Density)
footprint VBC48A_L (Thin QFP, 48-Leads, Body 7x7mm, Pitch 0.5mm, IPC High Density)
footprint VBC48A_M (Thin QFP, 48-Leads, Body 7x7mm, Pitch 0.5mm, IPC Low Density)
pins: 1 RPWDNB (in), 2 RESRVD (in), 3 ROUT[23] (hiz), 4 ROUT[22] (hiz), 5 ROUT[21] (hiz), 6 ROUT[20] (hiz), 7 VDDOR3 (power), 8 VSSOR3 (power), 9 ROUT[19] (hiz), 10 ROUT[18] (hiz), 11 ROUT[17] (hiz), 12 ROUT[16] (hiz), 13 ROUT[15] (hiz), 14 ROUT[14] (hiz), 15 ROUT[13] (hiz), 16 ROUT[12] (hiz), 17 LOCK (hiz), 18 RCLK (hiz), 19 VSSOR2 (power), 20 VDDOR2 (power), 21 ROUT[11] (hiz), 22 ROUT[10] (hiz), 23 ROUT[9] (hiz), 24 ROUT[8] (hiz), 25 ROUT[7] (hiz), 26 ROUT[6] (hiz), 27 ROUT[5] (hiz), 28 ROUT[4] (hiz), 29 VSSOR1 (power), 30 VDDOR1 (power), 31 ROUT[3] (hiz), 32 ROUT[2] (hiz), 33 ROUT[1] (hiz), 34 ROUT[0] (hiz), 35 VSSR0 (power), 36 VDDR0 (power), 37 VDDR1 (power), 38 VSSR1 (power), 39 VDDIR (power), 40 VSSIR (power), 41 RIN+ (in), 42 RIN- (in), 43 RRFB (in), 44 VSSPR1 (power), 45 VDDPR1 (power), 46 VSSPR0 (power), 47 VDDPR0 (power), 48 REN (in)

## DS90C124QVS/NOPB
designator U?
5-35MHz DC- Balanced 24-Bit FPD-Link II Deserializer, 48-pin TQFP, Pb-Free; PartNumber: DS90C124QVS/NOPB; Manufacturer: National Semiconductor; PackageTopMarking: NSUZXYTT*DS90C124*QVS; PowerWise: N; CompType: Interface IC; High-Reliability: Y; DatasheetVersion: Aug-2009; PackageVersion: revA, Apr-2000; PackageReference: VBC48A; PackageDescription: TQFP, Jedec Metric, 7 x 7 x 1mm, 48 Lead, 0.5mm Pitch; RoHS: Y; PinCount: 48; Code_JEDEC: MS-026-ABC; ComponentLink1Description: Manufacturer URL; ComponentLink1URL: http://www.national.com/; ComponentLink2Description: DS90C124 Datasheet; ComponentLink2URL: http://www.national.com/ds/DS/DS90C124.pdf; ComponentLink3Description: DS90C124 Web Page; ComponentLink3URL: http://www.national.com/pf/DS/DS90C124.html; ComponentLink4Description: VBC48A Package Page; ComponentLink4URL: http://www.national.com/packaging/folders/vbc48a.html
footprint VBC48A_N (Thin QFP, 48-Leads, Body 7x7mm, Pitch 0.5mm, IPC Medium Density)
footprint VBC48A_L (Thin QFP, 48-Leads, Body 7x7mm, Pitch 0.5mm, IPC High Density)
footprint VBC48A_M (Thin QFP, 48-Leads, Body 7x7mm, Pitch 0.5mm, IPC Low Density)
pins: 1 RPWDNB (in), 2 RESRVD (in), 3 ROUT[23] (hiz), 4 ROUT[22] (hiz), 5 ROUT[21] (hiz), 6 ROUT[20] (hiz), 7 VDDOR3 (power), 8 VSSOR3 (power), 9 ROUT[19] (hiz), 10 ROUT[18] (hiz), 11 ROUT[17] (hiz), 12 ROUT[16] (hiz), 13 ROUT[15] (hiz), 14 ROUT[14] (hiz), 15 ROUT[13] (hiz), 16 ROUT[12] (hiz), 17 LOCK (hiz), 18 RCLK (hiz), 19 VSSOR2 (power), 20 VDDOR2 (power), 21 ROUT[11] (hiz), 22 ROUT[10] (hiz), 23 ROUT[9] (hiz), 24 ROUT[8] (hiz), 25 ROUT[7] (hiz), 26 ROUT[6] (hiz), 27 ROUT[5] (hiz), 28 ROUT[4] (hiz), 29 VSSOR1 (power), 30 VDDOR1 (power), 31 ROUT[3] (hiz), 32 ROUT[2] (hiz), 33 ROUT[1] (hiz), 34 ROUT[0] (hiz), 35 VSSR0 (power), 36 VDDR0 (power), 37 VDDR1 (power), 38 VSSR1 (power), 39 VDDIR (power), 40 VSSIR (power), 41 RIN+ (in), 42 RIN- (in), 43 RRFB (in), 44 VSSPR1 (power), 45 VDDPR1 (power), 46 VSSPR0 (power), 47 VDDPR0 (power), 48 REN (in)

## DS90C124QVSX/NOPB
designator U?
5-35MHz DC- Balanced 24-Bit FPD-Link II Deserializer, 48-pin TQFP, Pb-Free; PartNumber: DS90C124QVSX/NOPB; Manufacturer: National Semiconductor; PackageTopMarking: NSUZXYTT*DS90C124*QVS; PowerWise: N; CompType: Interface IC; High-Reliability: Y; DatasheetVersion: Aug-2009; PackageVersion: revA, Apr-2000; PackageReference: VBC48A; PackageDescription: TQFP, Jedec Metric, 7 x 7 x 1mm, 48 Lead, 0.5mm Pitch; RoHS: Y; PinCount: 48; Code_JEDEC: MS-026-ABC; ComponentLink1Description: Manufacturer URL; ComponentLink1URL: http://www.national.com/; ComponentLink2Description: DS90C124 Datasheet; ComponentLink2URL: http://www.national.com/ds/DS/DS90C124.pdf; ComponentLink3Description: DS90C124 Web Page; ComponentLink3URL: http://www.national.com/pf/DS/DS90C124.html; ComponentLink4Description: VBC48A Package Page; ComponentLink4URL: http://www.national.com/packaging/folders/vbc48a.html
footprint VBC48A_N (Thin QFP, 48-Leads, Body 7x7mm, Pitch 0.5mm, IPC Medium Density)
footprint VBC48A_L (Thin QFP, 48-Leads, Body 7x7mm, Pitch 0.5mm, IPC High Density)
footprint VBC48A_M (Thin QFP, 48-Leads, Body 7x7mm, Pitch 0.5mm, IPC Low Density)
pins: 1 RPWDNB (in), 2 RESRVD (in), 3 ROUT[23] (hiz), 4 ROUT[22] (hiz), 5 ROUT[21] (hiz), 6 ROUT[20] (hiz), 7 VDDOR3 (power), 8 VSSOR3 (power), 9 ROUT[19] (hiz), 10 ROUT[18] (hiz), 11 ROUT[17] (hiz), 12 ROUT[16] (hiz), 13 ROUT[15] (hiz), 14 ROUT[14] (hiz), 15 ROUT[13] (hiz), 16 ROUT[12] (hiz), 17 LOCK (hiz), 18 RCLK (hiz), 19 VSSOR2 (power), 20 VDDOR2 (power), 21 ROUT[11] (hiz), 22 ROUT[10] (hiz), 23 ROUT[9] (hiz), 24 ROUT[8] (hiz), 25 ROUT[7] (hiz), 26 ROUT[6] (hiz), 27 ROUT[5] (hiz), 28 ROUT[4] (hiz), 29 VSSOR1 (power), 30 VDDOR1 (power), 31 ROUT[3] (hiz), 32 ROUT[2] (hiz), 33 ROUT[1] (hiz), 34 ROUT[0] (hiz), 35 VSSR0 (power), 36 VDDR0 (power), 37 VDDR1 (power), 38 VSSR1 (power), 39 VDDIR (power), 40 VSSIR (power), 41 RIN+ (in), 42 RIN- (in), 43 RRFB (in), 44 VSSPR1 (power), 45 VDDPR1 (power), 46 VSSPR0 (power), 47 VDDPR0 (power), 48 REN (in)

## DS90C241IVS/NOPB
designator U?
5-35MHz DC- Balanced 24-Bit FPD-Link II Serializer, 48 pin TQFP; PartNumber: DS90C241IVS/NOPB; Manufacturer: National Semiconductor; PackageTopMarking: NSUZXYTT*DS90C241*IVS; PowerWise: N; CompType: Interface IC; High-Reliability: Y; DatasheetVersion: Aug-2009; PackageVersion: revA, Apr-2000; PackageReference: VBC48A; PackageDescription: TQFP, Jedec Metric, 7 x 7 x 1mm, 48 Lead, 0.5mm Pitch; RoHS: Y; PinCount: 48; Code_JEDEC: MS-026-ABC; ComponentLink1Description: Manufacturer URL; ComponentLink1URL: http://www.national.com/; ComponentLink2Description: DS90C241 Datasheet; ComponentLink2URL: http://www.national.com/ds/DS/DS90C241.pdf; ComponentLink3Description: DS90C241 Web Page; ComponentLink3URL: http://www.national.com/pf/DS/DS90C241.html; ComponentLink4Description: VBC48A Package Page; ComponentLink4URL: http://www.national.com/packaging/folders/vbc48a.html
footprint VBC48A_N (Thin QFP, 48-Leads, Body 7x7mm, Pitch 0.5mm, IPC Medium Density)
footprint VBC48A_L (Thin QFP, 48-Leads, Body 7x7mm, Pitch 0.5mm, IPC High Density)
footprint VBC48A_M (Thin QFP, 48-Leads, Body 7x7mm, Pitch 0.5mm, IPC Low Density)
pins: 1 DIN[20] (in), 2 DIN[21] (in), 3 DIN[22] (in), 4 DIN[23] (in), 5 DCAOFF (in), 6 VSSL (power), 7 VDDL (power), 8 DCBOFF (in), 9 TPWDNB (in), 10 TCLK (in), 11 TRFB (in), 12 VODSEL (in), 13 RESRVD (in), 14 VDDPT1 (power), 15 VSSPT1 (power), 16 VDDPT0 (power), 17 VSSPT0 (power), 18 DEN (in), 19 DOUT- (out), 20 DOUT+ (out), 21 VSSDR (power), 22 VDDDR (power), 23 PRE (in), 24 VSS (power), 25 DIN[0] (in), 26 DIN[1] (in), 27 DIN[2] (in), 28 DIN[3] (in), 29 DIN[4] (in), 30 VDDT (power), 31 VSST (power), 32 DIN[5] (in), 33 DIN[6] (in), 34 DIN[7] (in), 35 DIN[8] (in), 36 DIN[9] (in), 37 DIN[10] (in), 38 DIN[11] (in), 39 DIN[12] (in), 40 DIN[13] (in), 41 DIN[14] (in), 42 VDDIT (power), 43 VSSIT (power), 44 DIN[15] (in), 45 DIN[16] (in), 46 DIN[17] (in), 47 DIN[18] (in), 48 DIN[19] (in)

## DS90C241IVSX/NOPB
designator U?
5-35MHz DC- Balanced 24-Bit FPD-Link II Serializer, 48 pin TQFP; PartNumber: DS90C241IVSX/NOPB; Manufacturer: National Semiconductor; PackageTopMarking: NSUZXYTT*DS90C241*IVS; PowerWise: N; CompType: Interface IC; High-Reliability: Y; DatasheetVersion: Aug-2009; PackageVersion: revA, Apr-2000; PackageReference: VBC48A; PackageDescription: TQFP, Jedec Metric, 7 x 7 x 1mm, 48 Lead, 0.5mm Pitch; RoHS: Y; PinCount: 48; Code_JEDEC: MS-026-ABC; ComponentLink1Description: Manufacturer URL; ComponentLink1URL: http://www.national.com/; ComponentLink2Description: DS90C241 Datasheet; ComponentLink2URL: http://www.national.com/ds/DS/DS90C241.pdf; ComponentLink3Description: DS90C241 Web Page; ComponentLink3URL: http://www.national.com/pf/DS/DS90C241.html; ComponentLink4Description: VBC48A Package Page; ComponentLink4URL: http://www.national.com/packaging/folders/vbc48a.html
footprint VBC48A_N (Thin QFP, 48-Leads, Body 7x7mm, Pitch 0.5mm, IPC Medium Density)
footprint VBC48A_L (Thin QFP, 48-Leads, Body 7x7mm, Pitch 0.5mm, IPC High Density)
footprint VBC48A_M (Thin QFP, 48-Leads, Body 7x7mm, Pitch 0.5mm, IPC Low Density)
pins: 1 DIN[20] (in), 2 DIN[21] (in), 3 DIN[22] (in), 4 DIN[23] (in), 5 DCAOFF (in), 6 VSSL (power), 7 VDDL (power), 8 DCBOFF (in), 9 TPWDNB (in), 10 TCLK (in), 11 TRFB (in), 12 VODSEL (in), 13 RESRVD (in), 14 VDDPT1 (power), 15 VSSPT1 (power), 16 VDDPT0 (power), 17 VSSPT0 (power), 18 DEN (in), 19 DOUT- (out), 20 DOUT+ (out), 21 VSSDR (power), 22 VDDDR (power), 23 PRE (in), 24 VSS (power), 25 DIN[0] (in), 26 DIN[1] (in), 27 DIN[2] (in), 28 DIN[3] (in), 29 DIN[4] (in), 30 VDDT (power), 31 VSST (power), 32 DIN[5] (in), 33 DIN[6] (in), 34 DIN[7] (in), 35 DIN[8] (in), 36 DIN[9] (in), 37 DIN[10] (in), 38 DIN[11] (in), 39 DIN[12] (in), 40 DIN[13] (in), 41 DIN[14] (in), 42 VDDIT (power), 43 VSSIT (power), 44 DIN[15] (in), 45 DIN[16] (in), 46 DIN[17] (in), 47 DIN[18] (in), 48 DIN[19] (in)

## DS90C241QVS
designator U?
5-35MHz DC- Balanced 24-Bit LVDS Serializer, 48-pin TQFP; PartNumber: DS90C241QVS; Manufacturer: National Semiconductor; PackageTopMarking: NSUZXYTT*DS90C241*QVS; PowerWise: N; CompType: Interface IC; High-Reliability: Y; DatasheetVersion: Aug-2009; PackageVersion: revA, Apr-2000; PackageReference: VBC48A; PackageDescription: TQFP, Jedec Metric, 7 x 7 x 1mm, 48 Lead, 0.5mm Pitch; RoHS: Y; PinCount: 48; Code_JEDEC: MS-026-ABC; ComponentLink1Description: Manufacturer URL; ComponentLink1URL: http://www.national.com/; ComponentLink2Description: DS90C241 Datasheet; ComponentLink2URL: http://www.national.com/ds/DS/DS90C241.pdf; ComponentLink3Description: DS90C241 Web Page; ComponentLink3URL: http://www.national.com/pf/DS/DS90C241.html; ComponentLink4Description: VBC48A Package Page; ComponentLink4URL: http://www.national.com/packaging/folders/vbc48a.html
footprint VBC48A_N (Thin QFP, 48-Leads, Body 7x7mm, Pitch 0.5mm, IPC Medium Density)
footprint VBC48A_L (Thin QFP, 48-Leads, Body 7x7mm, Pitch 0.5mm, IPC High Density)
footprint VBC48A_M (Thin QFP, 48-Leads, Body 7x7mm, Pitch 0.5mm, IPC Low Density)
pins: 1 DIN[20] (in), 2 DIN[21] (in), 3 DIN[22] (in), 4 DIN[23] (in), 5 DCAOFF (in), 6 VSSL (power), 7 VDDL (power), 8 DCBOFF (in), 9 TPWDNB (in), 10 TCLK (in), 11 TRFB (in), 12 VODSEL (in), 13 RESRVD (in), 14 VDDPT1 (power), 15 VSSPT1 (power), 16 VDDPT0 (power), 17 VSSPT0 (power), 18 DEN (in), 19 DOUT- (out), 20 DOUT+ (out), 21 VSSDR (power), 22 VDDDR (power), 23 PRE (in), 24 VSS (power), 25 DIN[0] (in), 26 DIN[1] (in), 27 DIN[2] (in), 28 DIN[3] (in), 29 DIN[4] (in), 30 VDDT (power), 31 VSST (power), 32 DIN[5] (in), 33 DIN[6] (in), 34 DIN[7] (in), 35 DIN[8] (in), 36 DIN[9] (in), 37 DIN[10] (in), 38 DIN[11] (in), 39 DIN[12] (in), 40 DIN[13] (in), 41 DIN[14] (in), 42 VDDIT (power), 43 VSSIT (power), 44 DIN[15] (in), 45 DIN[16] (in), 46 DIN[17] (in), 47 DIN[18] (in), 48 DIN[19] (in)

## DS90C241QVS/NOPB
designator U?
5-35MHz DC- Balanced 24-Bit FPD-Link II Serializer, 48-pin TQFP, Pb-Free; PartNumber: DS90C241QVS/NOPB; Manufacturer: National Semiconductor; PackageTopMarking: NSUZXYTT*DS90C241*QVS; PowerWise: N; CompType: Interface IC; High-Reliability: Y; DatasheetVersion: Aug-2009; PackageVersion: revA, Apr-2000; PackageReference: VBC48A; PackageDescription: TQFP, Jedec Metric, 7 x 7 x 1mm, 48 Lead, 0.5mm Pitch; RoHS: Y; PinCount: 48; Code_JEDEC: MS-026-ABC; ComponentLink1Description: Manufacturer URL; ComponentLink1URL: http://www.national.com/; ComponentLink2Description: DS90C241 Datasheet; ComponentLink2URL: http://www.national.com/ds/DS/DS90C241.pdf; ComponentLink3Description: DS90C241 Web Page; ComponentLink3URL: http://www.national.com/pf/DS/DS90C241.html; ComponentLink4Description: VBC48A Package Page; ComponentLink4URL: http://www.national.com/packaging/folders/vbc48a.html
footprint VBC48A_N (Thin QFP, 48-Leads, Body 7x7mm, Pitch 0.5mm, IPC Medium Density)
footprint VBC48A_L (Thin QFP, 48-Leads, Body 7x7mm, Pitch 0.5mm, IPC High Density)
footprint VBC48A_M (Thin QFP, 48-Leads, Body 7x7mm, Pitch 0.5mm, IPC Low Density)
pins: 1 DIN[20] (in), 2 DIN[21] (in), 3 DIN[22] (in), 4 DIN[23] (in), 5 DCAOFF (in), 6 VSSL (power), 7 VDDL (power), 8 DCBOFF (in), 9 TPWDNB (in), 10 TCLK (in), 11 TRFB (in), 12 VODSEL (in), 13 RESRVD (in), 14 VDDPT1 (power), 15 VSSPT1 (power), 16 VDDPT0 (power), 17 VSSPT0 (power), 18 DEN (in), 19 DOUT- (out), 20 DOUT+ (out), 21 VSSDR (power), 22 VDDDR (power), 23 PRE (in), 24 VSS (power), 25 DIN[0] (in), 26 DIN[1] (in), 27 DIN[2] (in), 28 DIN[3] (in), 29 DIN[4] (in), 30 VDDT (power), 31 VSST (power), 32 DIN[5] (in), 33 DIN[6] (in), 34 DIN[7] (in), 35 DIN[8] (in), 36 DIN[9] (in), 37 DIN[10] (in), 38 DIN[11] (in), 39 DIN[12] (in), 40 DIN[13] (in), 41 DIN[14] (in), 42 VDDIT (power), 43 VSSIT (power), 44 DIN[15] (in), 45 DIN[16] (in), 46 DIN[17] (in), 47 DIN[18] (in), 48 DIN[19] (in)

## DS90C241QVSX/NOPB
designator U?
5-35MHz DC- Balanced 24-Bit FPD-Link II Serializer, 48-pin TQFP, Pb-Free; PartNumber: DS90C241QVSX/NOPB; Manufacturer: National Semiconductor; PackageTopMarking: NSUZXYTT*DS90C241*QVS; PowerWise: N; CompType: Interface IC; High-Reliability: Y; DatasheetVersion: Aug-2009; PackageVersion: revA, Apr-2000; PackageReference: VBC48A; PackageDescription: TQFP, Jedec Metric, 7 x 7 x 1mm, 48 Lead, 0.5mm Pitch; RoHS: Y; PinCount: 48; Code_JEDEC: MS-026-ABC; ComponentLink1Description: Manufacturer URL; ComponentLink1URL: http://www.national.com/; ComponentLink2Description: DS90C241 Datasheet; ComponentLink2URL: http://www.national.com/ds/DS/DS90C241.pdf; ComponentLink3Description: DS90C241 Web Page; ComponentLink3URL: http://www.national.com/pf/DS/DS90C241.html; ComponentLink4Description: VBC48A Package Page; ComponentLink4URL: http://www.national.com/packaging/folders/vbc48a.html
footprint VBC48A_N (Thin QFP, 48-Leads, Body 7x7mm, Pitch 0.5mm, IPC Medium Density)
footprint VBC48A_L (Thin QFP, 48-Leads, Body 7x7mm, Pitch 0.5mm, IPC High Density)
footprint VBC48A_M (Thin QFP, 48-Leads, Body 7x7mm, Pitch 0.5mm, IPC Low Density)
pins: 1 DIN[20] (in), 2 DIN[21] (in), 3 DIN[22] (in), 4 DIN[23] (in), 5 DCAOFF (in), 6 VSSL (power), 7 VDDL (power), 8 DCBOFF (in), 9 TPWDNB (in), 10 TCLK (in), 11 TRFB (in), 12 VODSEL (in), 13 RESRVD (in), 14 VDDPT1 (power), 15 VSSPT1 (power), 16 VDDPT0 (power), 17 VSSPT0 (power), 18 DEN (in), 19 DOUT- (out), 20 DOUT+ (out), 21 VSSDR (power), 22 VDDDR (power), 23 PRE (in), 24 VSS (power), 25 DIN[0] (in), 26 DIN[1] (in), 27 DIN[2] (in), 28 DIN[3] (in), 29 DIN[4] (in), 30 VDDT (power), 31 VSST (power), 32 DIN[5] (in), 33 DIN[6] (in), 34 DIN[7] (in), 35 DIN[8] (in), 36 DIN[9] (in), 37 DIN[10] (in), 38 DIN[11] (in), 39 DIN[12] (in), 40 DIN[13] (in), 41 DIN[14] (in), 42 VDDIT (power), 43 VSSIT (power), 44 DIN[15] (in), 45 DIN[16] (in), 46 DIN[17] (in), 47 DIN[18] (in), 48 DIN[19] (in)